# Altium footprint library bomakaiguan.PcbLib: 1 footprints
Each footprint in its own frame and in the unit in brackets; x right, y up, seen from the top. Pads: shape width x height; smd on the part's side, far side on the other; paste and mask are expansions set on the pad; w line width, h text height; cw(c..) or ccw(c..) is an arc to the next point about the centre after c.
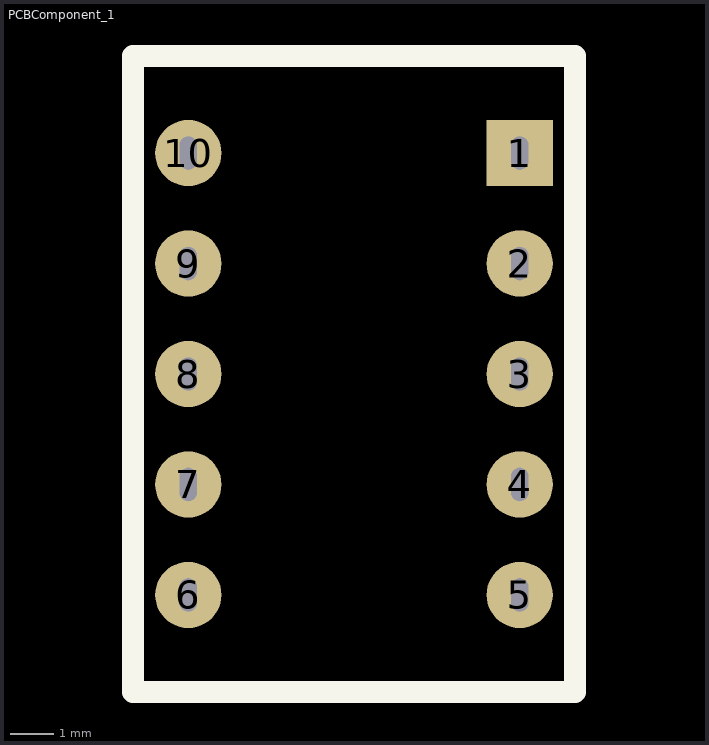
[diagram p0: the footprint, top view; thin cyan lines are the x and y axes]

## PCBComponent_1 [mil]
pads (10):
  rect 60x60 hole 15.75 slot 30 at 90 deg: 1(-33740,-37465)
  round 60 hole 15.75 slot 30 at 90 deg: 2(-33740,-37565) 3(-33740,-37665) 4(-33740,-37765) 5(-33740,-37865) 6(-34040,-37865) 7(-34040,-37765) 8(-34040,-37665) 9(-34040,-37565) 10(-34040,-37465)
Top Overlay:
  lines w20: -34090,-37953 -33690,-37953 -33690,-37377 -34090,-37377 -34090,-37953